# Altium schematic symbol library lattice.SchLib: 1 symbol
Pins are listed as number, name and electrical type; pins without a type are passive.

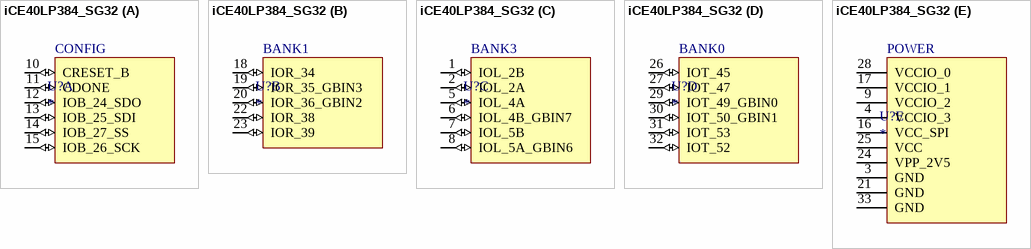
[diagram p0: symbol iCE40LP384_SG32]

## iCE40LP384_SG32
designator U?
footprint QFN50P500X500X65_HS-33M (QFN, 32-Leads, Body 5.00x5.00mm, Pitch 0.50mm, Thermal Pad 3.50x3.50mm, IPC Low Density)
part A pins: 10 CRESET_B (io), 11 CDONE (io), 12 IOB_24_SDO (io), 13 IOB_25_SDI (io), 14 IOB_27_SS (io), 15 IOB_26_SCK (io)
part B pins: 18 IOR_34 (io), 19 IOR_35_GBIN3 (io), 20 IOR_36_GBIN2 (io), 22 IOR_38 (io), 23 IOR_39 (io)
part C pins: 1 IOL_2B (io), 2 IOL_2A (io), 5 IOL_4A (io), 6 IOL_4B_GBIN7 (io), 7 IOL_5B (io), 8 IOL_5A_GBIN6 (io)
part D pins: 26 IOT_45 (io), 27 IOT_47 (io), 29 IOT_49_GBIN0 (io), 30 IOT_50_GBIN1 (io), 31 IOT_53 (io), 32 IOT_52 (io)
part E pins: 3 GND (power), 4 VCCIO_3 (power), 9 VCCIO_2 (power), 16 VCC_SPI (power), 17 VCCIO_1 (power), 21 GND (power), 24 VPP_2V5 (power), 25 VCC (power), 28 VCCIO_0 (power), 33 GND (power)
part A text: CONFIG
part B text: BANK1
part C text: BANK3
part D text: BANK0
part E text: POWER